# Altium schematic symbol library SIMBOLS_OPTIQUES.SchLib: 6 symbols
Pins are listed as number, name and electrical type; pins without a type are passive.

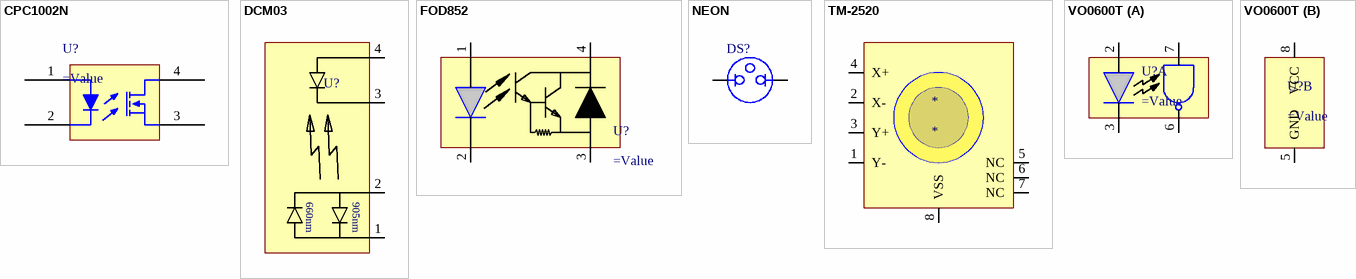
[diagram p0: symbols CPC1002N to VO0600T]

## CPC1002N
designator U?
pins: 1 +CTRL, 2 -CTRL, 3 DC-, 4 DC+

## DCM03
designator U?  (value not drawn)
Integrated Dual Emitter and Photodetector; Manufacturer: APMKorea; U/M: EA; Published: 04-Aug-2013; LatestRevisionDate: 04-Aug-2013; LatestRevisionNote: Added Alternate PartNumber and Alternate Manufacturer parameters to appropriate components.; PackageReference: DCM03; Publisher: Texas Instruments; PackageDescription: DCM03; Alternate Manufacturer: -; Alternate Part Number: -; ComponentLink1URL: -; ComponentLink1Description: DCM03 Datasheet; CompType: Integrated Dual Emitter and Photodetector; Mount Type: SMT; Symbol Version: 04-Aug-2013; Value: *; Package Version: -
footprint DCM03 (Integrated Dual Emitter and Photodetector; 4 Leads)
pins: 1 in1, 2 in2, 3 PHK, 4 PHA
text: 660nm; 905nm

## FOD852
designator U?
pins: 1, 2, 3, 4

## NEON
designator DS?
NEON
pins: 1, 2

## TM-2520
designator *
pins: 1 Y-, 2 X-, 3 Y+, 4 X+, 5 NC, 6 NC, 7 NC, 8 VSS

## VO0600T
designator U?
part A pins: 2 A, 3 C, 6 OUT, 7 IN
part B pins: 5 GND, 8 VCC